# EAGLE library part PCA82C250 (library philips)
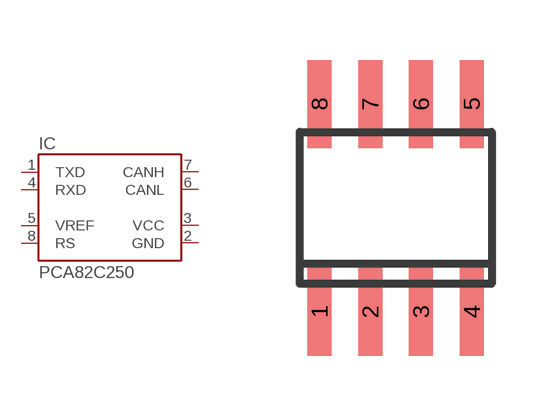
[diagram p0: symbol with the pads of SOIC-8; footprint SOIC-8]

Designator prefix IC

## PCA82C250T  [SOIC-8]
1  TXD  in
2  GND  pas
3  VCC  pas
4  RXD  out
5  VREF  pas
6  CANL
7  CANH
8  RS  pas

## Footprint SOIC-8 (pad centres in mm)
smd 0.6 x 2.2: 1 -1.905,-2.6; 2 -0.635,-2.6; 3 0.635,-2.6; 4 1.905,-2.6; 5 1.905,2.6; 6 0.635,2.6; 7 -0.635,2.6; 8 -1.905,2.6